# EAGLE library part W5500 (library Dennistries-Josh)
W5500 Ethernet Chip
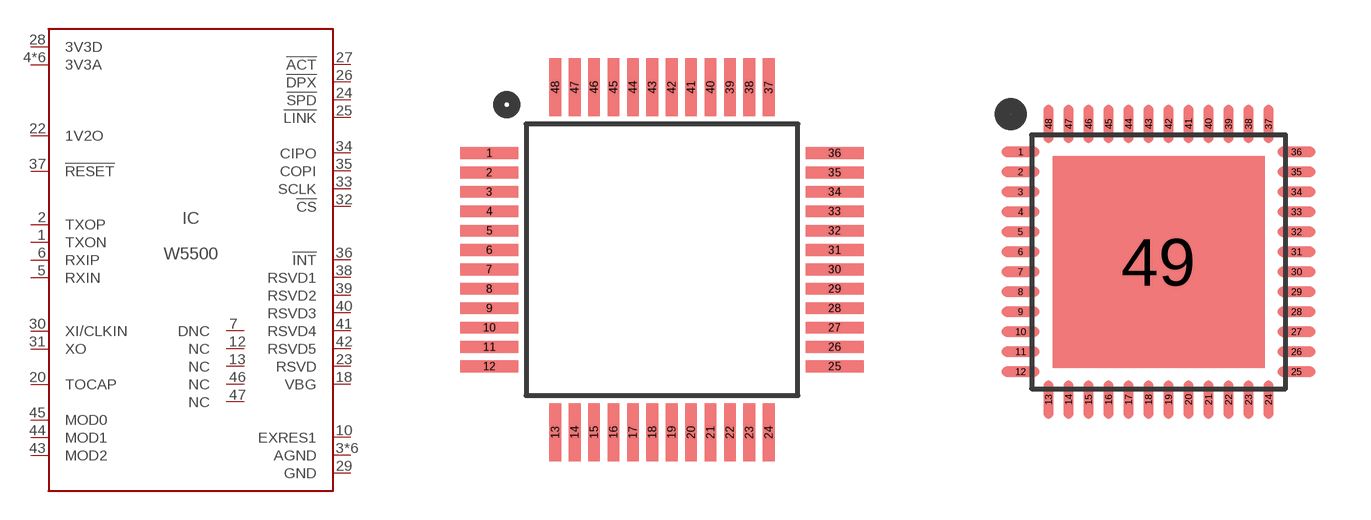
[diagram p54: symbol with the pads of LQFP48; footprints LQFP48, QFN48]

Designator prefix IC

## W5500-LQFP  [LQFP48]
1  TXON  pas
2  TXOP  pas
3  AGND  pas
4  3V3A  pas
5  RXIN  pas
6  RXIP  pas
7  DNC  pas
8  3V3A  pas
9  AGND  pas
10  EXRES1  pas
11  3V3A  pas
12  NC  pas
13  NC  pas
14  AGND  pas
15  3V3A  pas
16  AGND  pas
17  3V3A  pas
18  VBG  pas
19  AGND  pas
20  TOCAP  pas
21  3V3A  pas
22  1V2O  pas
23  RSVD  pas
24  !SPD  pas
25  !LINK  pas
26  !DPX  pas
27  !ACT  pas
28  3V3D  pas
29  GND  pas
30  XI/CLKIN  pas
31  XO  pas
32  !CS  pas
33  SCLK  pas
34  CIPO  pas
35  COPI  pas
36  !INT  pas
37  !RESET  pas
38  RSVD1  pas
39  RSVD2  pas
40  RSVD3  pas
41  RSVD4  pas
42  RSVD5  pas
43  MOD2  pas
44  MOD1  pas
45  MOD0  pas
46  NC  pas
47  NC  pas
48  AGND  pas

## W5500-QFN  [QFN48]
1  TXON  pas
2  TXOP  pas
3  AGND  pas
4  3V3A  pas
5  RXIN  pas
6  RXIP  pas
7  DNC  pas
8  3V3A  pas
9  AGND  pas
10  EXRES1  pas
11  3V3A  pas
12  NC  pas
13  NC  pas
14  AGND  pas
15  3V3A  pas
16  AGND  pas
17  3V3A  pas
18  VBG  pas
19  AGND  pas
20  TOCAP  pas
21  3V3A  pas
22  1V2O  pas
23  RSVD  pas
24  !SPD  pas
25  !LINK  pas
26  !DPX  pas
27  !ACT  pas
28  3V3D  pas
29  GND  pas
30  XI/CLKIN  pas
31  XO  pas
32  !CS  pas
33  SCLK  pas
34  CIPO  pas
35  COPI  pas
36  !INT  pas
37  !RESET  pas
38  RSVD1  pas
39  RSVD2  pas
40  RSVD3  pas
41  RSVD4  pas
42  RSVD5  pas
43  MOD2  pas
44  MOD1  pas
45  MOD0  pas
46  NC  pas
47  NC  pas
48  AGND  pas
49  GND  pas

## Footprint LQFP48 (pad centres in mm)
smd 1.5 x 0.3: 1 -4.45,2.75; 2 -4.45,2.25; 3 -4.45,1.75; 4 -4.45,1.25; 5 -4.45,0.75; 6 -4.45,0.25; 7 -4.45,-0.25; 8 -4.45,-0.75; 9 -4.45,-1.25; 10 -4.45,-1.75; 11 -4.45,-2.25; 12 -4.45,-2.75; 25 4.45,-2.75; 26 4.45,-2.25; 27 4.45,-1.75; 28 4.45,-1.25; 29 4.45,-0.75; 30 4.45,-0.25; 31 4.45,0.25; 32 4.45,0.75; 33 4.45,1.25; 34 4.45,1.75; 35 4.45,2.25; 36 4.45,2.75
smd 0.3 x 1.5: 13 -2.75,-4.45; 14 -2.25,-4.45; 15 -1.75,-4.45; 16 -1.25,-4.45; 17 -0.75,-4.45; 18 -0.25,-4.45; 19 0.25,-4.45; 20 0.75,-4.45; 21 1.25,-4.45; 22 1.75,-4.45; 23 2.25,-4.45; 24 2.75,-4.45; 37 2.75,4.45; 38 2.25,4.45; 39 1.75,4.45; 40 1.25,4.45; 41 0.75,4.45; 42 0.25,4.45; 43 -0.25,4.45; 44 -0.75,4.45; 45 -1.25,4.45; 46 -1.75,4.45; 47 -2.25,4.45; 48 -2.75,4.45

## Footprint QFN48 (pad centres in mm)
smd 0.95 x 0.25: 1 -3.45,2.75; 2 -3.45,2.25; 3 -3.45,1.75; 4 -3.45,1.25; 5 -3.45,0.75; 6 -3.45,0.25; 7 -3.45,-0.25; 8 -3.45,-0.75; 9 -3.45,-1.25; 10 -3.45,-1.75; 11 -3.45,-2.25; 12 -3.45,-2.75; 25 3.45,-2.75; 26 3.45,-2.25; 27 3.45,-1.75; 28 3.45,-1.25; 29 3.45,-0.75; 30 3.45,-0.25; 31 3.45,0.25; 32 3.45,0.75; 33 3.45,1.25; 34 3.45,1.75; 35 3.45,2.25; 36 3.45,2.75
smd 0.25 x 0.95: 13 -2.75,-3.45; 14 -2.25,-3.45; 15 -1.75,-3.45; 16 -1.25,-3.45; 17 -0.75,-3.45; 18 -0.25,-3.45; 19 0.25,-3.45; 20 0.75,-3.45; 21 1.25,-3.45; 22 1.75,-3.45; 23 2.25,-3.45; 24 2.75,-3.45; 37 2.75,3.45; 38 2.25,3.45; 39 1.75,3.45; 40 1.25,3.45; 41 0.75,3.45; 42 0.25,3.45; 43 -0.25,3.45; 44 -0.75,3.45; 45 -1.25,3.45; 46 -1.75,3.45; 47 -2.25,3.45; 48 -2.75,3.45
smd 5.3 x 5.3: 49 0,0